# Altium integrated library TI Data Converters Digital to Analog Converter.IntLib: 1533 symbols (part 77 of 99)
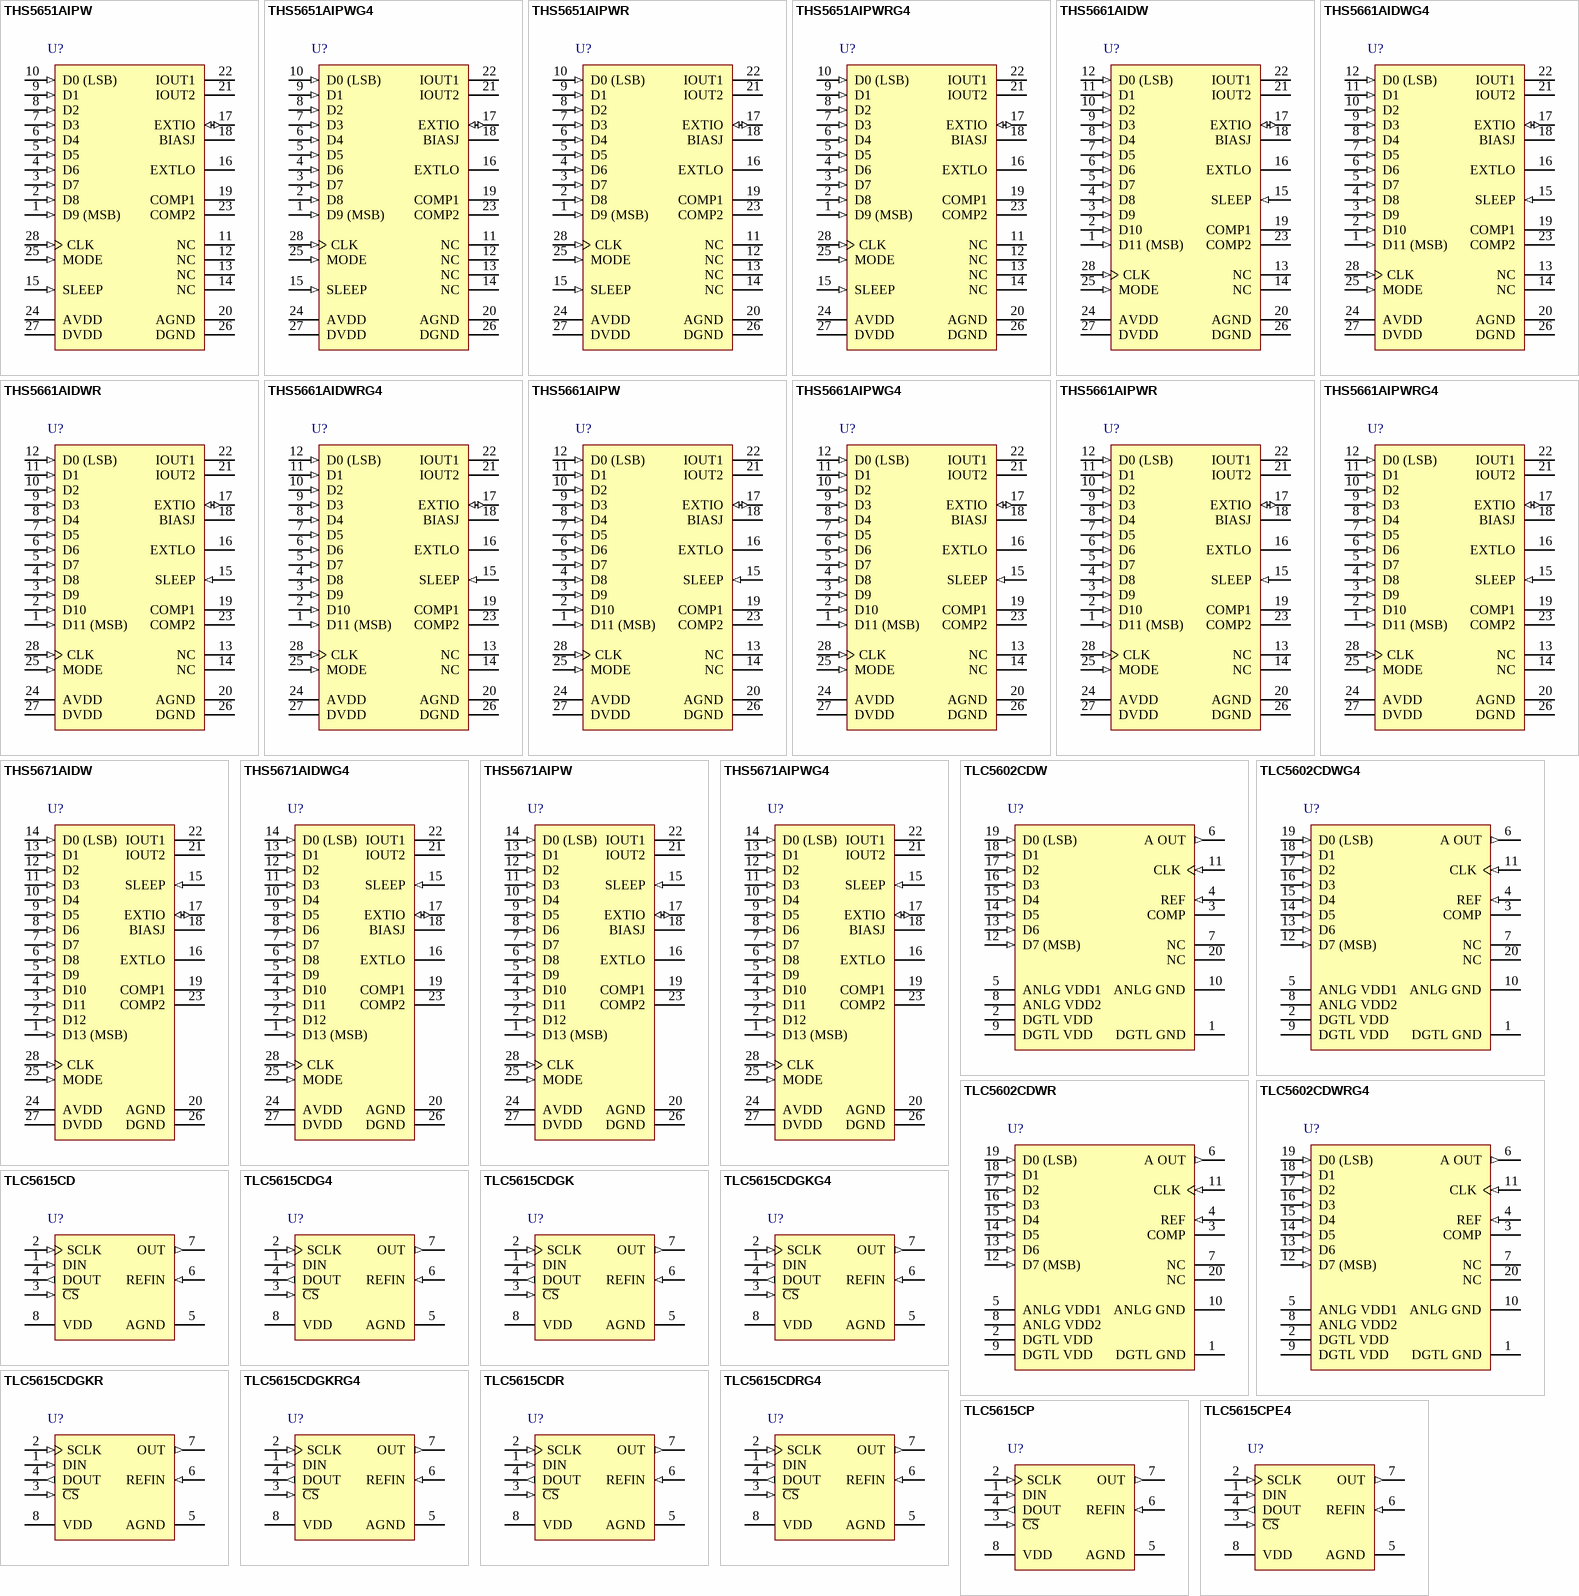
[diagram p149: symbols THS5651AIPW to TLC5615CPE4]

## THS5661AIDWR
designator U?
12-Bit, 125 MSPS, CommsDAC, Differential Scalable Current Outputs between 2 to 20 mA, -40 to 85 degC, 28-pin SOIC (DW28), Green (RoHS & no Sb/Br); Manufacturer: Texas Instruments; PartNumber: THS5661AIDWR; DAC Channels: 1; DNL(Max)(+/-LSB): 2; INL(Max)(+/-LSB): 4; Interface: Parallel CMOS; Power Consumption(Typ)(mW): 175; Resolution(Bits): 12; Settling Time(us): 0.035; SFDR(dB): 82; SubFamily: High Speed DAC (>10MSPS); DatasheetVersion: SLAS247B; PackageVersion: 4040000-6/G, 01/2011; PackageReference: DW28; PackageDescription: 28-Pin Plastic Small Outline, Body 17.90 x 7.50 mm, Pitch 1.27 mm; Supplier 1: Digi-Key; Supplier Part Number 1: THS5661AIDWR-ND; Supplier 2: Mouser; Supplier Part Number 2: 595-THS5661AIDWR; Eco-Plan: Green (RoHS & no Sb/Br); Mounting Technology: Surface Mount; Code_JEDEC: MS-013; ComponentLink1Description: Manufacturer URL; ComponentLink1URL: http://www.ti.com/; ComponentLink2Description: Datasheet; ComponentLink2URL: http://www.ti.com/general/docs/lit/getliterature.tsp?genericPartNumber=THS5661A&fileType=pdf; ComponentLink3Description: Package Specification; ComponentLink3URL: http://www.ti.com/lit/ml/mpds175a/mpds175a.pdf
footprint TI-DW28_N (SOIC, 28-Leads, Body 17.9x7.5mm, Pitch 1.27mm, IPC Medium Density)
footprint TI-DW28_L (SOIC, 28-Leads, Body 17.9x7.5mm, Pitch 1.27mm, IPC High Density)
footprint TI-DW28_M (SOIC, 28-Leads, Body 17.9x7.5mm, Pitch 1.27mm, IPC Low Density)
pins: 1 D11 (MSB) (in) "Data bit 11. D11 is most significant data bit (MSB).", 2 D10 (in) "Data bit 10.", 3 D9 (in) "Data bit 9.", 4 D8 (in) "Data bit 8.", 5 D7 (in) "Data bit 7.", 6 D6 (in) "Data bit 6.", 7 D5 (in) "Data bit 5.", 8 D4 (in) "Data bit 4.", 9 D3 (in) "Data bit 3.", 10 D2 (in) "Data bit 2.", 11 D1 (in) "Data bit 1.", 12 D0 (LSB) (in) "Data bit 0. D0 is least significant data bit (LSB).", 13 NC "No connection", 14 NC "No connection", 15 SLEEP (in) "Asynchronous hardware power down input. Active high. Internal pulldown. Requires 5 Us to power down but 3 ms to power up.", 16 EXTLO "Internal reference ground. Connect to AVDD to disable the internal reference source.", 17 EXTIO (io) "Used as external reference input when internal reference is disabled (i.e., EXTLO = AVDD). Used as internal reference output when EXTLO = AGND, requires a 0.1 uF decoupling capacitor to AGND when used as reference output.", 18 BIASJ "Full-scale output current bias", 19 COMP1 "Compensation and decoupling node, requires a 0.1 uF capacitor to AVDD.", 20 AGND (power) "Analog ground return for the internal analog circuitry", 21 IOUT2 (hiz) "Complementary DAC current output. Full scale when all input bits are 0", 22 IOUT1 (hiz) "DAC current output. Full scale when all input bits are set 1", 23 COMP2 "Internal bias node, requires a 0.1 uF decoupling capacitor to AGND.", 24 AVDD (power) "Positive analog supply voltage (3 V to 5.5 V)", 25 MODE (in) "Mode select. Internal pulldown. Mode 0 is selected if this pin is left floating or connected to DGND. See timing diagram.", 26 DGND (power) "Digital ground return for the internal digital logic circuitry", 27 DVDD (power) "Positive digital supply voltage (3 V to 5.5 V)", 28 CLK (in) "External clock input. Input data latched on rising edge of the clock."

## THS5661AIDWRG4
designator U?
12-Bit, 125 MSPS, CommsDAC, Differential Scalable Current Outputs between 2 to 20 mA, -40 to 85 degC, 28-pin SOIC (DW28), Green (RoHS & no Sb/Br); Manufacturer: Texas Instruments; PartNumber: THS5661AIDWRG4; DAC Channels: 1; DNL(Max)(+/-LSB): 2; INL(Max)(+/-LSB): 4; Interface: Parallel CMOS; Power Consumption(Typ)(mW): 175; Resolution(Bits): 12; Settling Time(us): 0.035; SFDR(dB): 82; SubFamily: High Speed DAC (>10MSPS); DatasheetVersion: SLAS247B; PackageVersion: 4040000-6/G, 01/2011; PackageReference: DW28; PackageDescription: 28-Pin Plastic Small Outline, Body 17.90 x 7.50 mm, Pitch 1.27 mm; Supplier 1: Digi-Key; Supplier Part Number 1: THS5661AIDWRG4-ND; Supplier 2: Mouser; Supplier Part Number 2: 595-THS5661AIDWRG4; Eco-Plan: Green (RoHS & no Sb/Br); Mounting Technology: Surface Mount; Code_JEDEC: MS-013; ComponentLink1Description: Manufacturer URL; ComponentLink1URL: http://www.ti.com/; ComponentLink2Description: Datasheet; ComponentLink2URL: http://www.ti.com/general/docs/lit/getliterature.tsp?genericPartNumber=THS5661A&fileType=pdf; ComponentLink3Description: Package Specification; ComponentLink3URL: http://www.ti.com/lit/ml/mpds175a/mpds175a.pdf
footprint TI-DW28_N (SOIC, 28-Leads, Body 17.9x7.5mm, Pitch 1.27mm, IPC Medium Density)
footprint TI-DW28_L (SOIC, 28-Leads, Body 17.9x7.5mm, Pitch 1.27mm, IPC High Density)
footprint TI-DW28_M (SOIC, 28-Leads, Body 17.9x7.5mm, Pitch 1.27mm, IPC Low Density)
pins: 1 D11 (MSB) (in) "Data bit 11. D11 is most significant data bit (MSB).", 2 D10 (in) "Data bit 10.", 3 D9 (in) "Data bit 9.", 4 D8 (in) "Data bit 8.", 5 D7 (in) "Data bit 7.", 6 D6 (in) "Data bit 6.", 7 D5 (in) "Data bit 5.", 8 D4 (in) "Data bit 4.", 9 D3 (in) "Data bit 3.", 10 D2 (in) "Data bit 2.", 11 D1 (in) "Data bit 1.", 12 D0 (LSB) (in) "Data bit 0. D0 is least significant data bit (LSB).", 13 NC "No connection", 14 NC "No connection", 15 SLEEP (in) "Asynchronous hardware power down input. Active high. Internal pulldown. Requires 5 Us to power down but 3 ms to power up.", 16 EXTLO "Internal reference ground. Connect to AVDD to disable the internal reference source.", 17 EXTIO (io) "Used as external reference input when internal reference is disabled (i.e., EXTLO = AVDD). Used as internal reference output when EXTLO = AGND, requires a 0.1 uF decoupling capacitor to AGND when used as reference output.", 18 BIASJ "Full-scale output current bias", 19 COMP1 "Compensation and decoupling node, requires a 0.1 uF capacitor to AVDD.", 20 AGND (power) "Analog ground return for the internal analog circuitry", 21 IOUT2 (hiz) "Complementary DAC current output. Full scale when all input bits are 0", 22 IOUT1 (hiz) "DAC current output. Full scale when all input bits are set 1", 23 COMP2 "Internal bias node, requires a 0.1 uF decoupling capacitor to AGND.", 24 AVDD (power) "Positive analog supply voltage (3 V to 5.5 V)", 25 MODE (in) "Mode select. Internal pulldown. Mode 0 is selected if this pin is left floating or connected to DGND. See timing diagram.", 26 DGND (power) "Digital ground return for the internal digital logic circuitry", 27 DVDD (power) "Positive digital supply voltage (3 V to 5.5 V)", 28 CLK (in) "External clock input. Input data latched on rising edge of the clock."

## THS5661AIPW
designator U?
12-Bit, 125 MSPS, CommsDAC, Differential Scalable Current Outputs between 2 to 20 mA, -40 to 85 degC, 28-pin SOP (PW28), Green (RoHS & no Sb/Br); Manufacturer: Texas Instruments; PartNumber: THS5661AIPW; DAC Channels: 1; DNL(Max)(+/-LSB): 2; INL(Max)(+/-LSB): 4; Interface: Parallel CMOS; Power Consumption(Typ)(mW): 175; Resolution(Bits): 12; Settling Time(us): 0.035; SFDR(dB): 82; SubFamily: High Speed DAC (>10MSPS); DatasheetVersion: SLAS247B; PackageVersion: 4040064-7/G, 02/2011; PackageReference: PW28; PackageDescription: 28-Pin Plastic Small Outline, Body 9.7 x 4.4 mm, Pitch 0.65 mm; Supplier 1: Digi-Key; Supplier Part Number 1: 296-2288-5-ND; Supplier 2: Mouser; Supplier Part Number 2: 595-THS5661AIPW; Eco-Plan: Green (RoHS & no Sb/Br); Mounting Technology: Surface Mount; Code_JEDEC: MO-153; ComponentLink1Description: Manufacturer URL; ComponentLink1URL: http://www.ti.com/; ComponentLink2Description: Datasheet; ComponentLink2URL: http://www.ti.com/general/docs/lit/getliterature.tsp?genericPartNumber=THS5661A&fileType=pdf; ComponentLink3Description: Package Specification; ComponentLink3URL: http://www.ti.com/litv/pdf/mpds364
footprint TI-PW28_N (SOP, 28-Leads, Body 9.7x4.4mm, Pitch 0.65mm, IPC Medium Density)
footprint TI-PW28_L (SOP, 28-Leads, Body 9.7x4.4mm, Pitch 0.65mm, IPC High Density)
footprint TI-PW28_M (SOP, 28-Leads, Body 9.7x4.4mm, Pitch 0.65mm, IPC Low Density)
pins: 1 D11 (MSB) (in) "Data bit 11. D11 is most significant data bit (MSB).", 2 D10 (in) "Data bit 10.", 3 D9 (in) "Data bit 9.", 4 D8 (in) "Data bit 8.", 5 D7 (in) "Data bit 7.", 6 D6 (in) "Data bit 6.", 7 D5 (in) "Data bit 5.", 8 D4 (in) "Data bit 4.", 9 D3 (in) "Data bit 3.", 10 D2 (in) "Data bit 2.", 11 D1 (in) "Data bit 1.", 12 D0 (LSB) (in) "Data bit 0. D0 is least significant data bit (LSB).", 13 NC "No connection", 14 NC "No connection", 15 SLEEP (in) "Asynchronous hardware power down input. Active high. Internal pulldown. Requires 5 Us to power down but 3 ms to power up.", 16 EXTLO "Internal reference ground. Connect to AVDD to disable the internal reference source.", 17 EXTIO (io) "Used as external reference input when internal reference is disabled (i.e., EXTLO = AVDD). Used as internal reference output when EXTLO = AGND, requires a 0.1 uF decoupling capacitor to AGND when used as reference output.", 18 BIASJ "Full-scale output current bias", 19 COMP1 "Compensation and decoupling node, requires a 0.1 uF capacitor to AVDD.", 20 AGND (power) "Analog ground return for the internal analog circuitry", 21 IOUT2 (hiz) "Complementary DAC current output. Full scale when all input bits are 0", 22 IOUT1 (hiz) "DAC current output. Full scale when all input bits are set 1", 23 COMP2 "Internal bias node, requires a 0.1 uF decoupling capacitor to AGND.", 24 AVDD (power) "Positive analog supply voltage (3 V to 5.5 V)", 25 MODE (in) "Mode select. Internal pulldown. Mode 0 is selected if this pin is left floating or connected to DGND. See timing diagram.", 26 DGND (power) "Digital ground return for the internal digital logic circuitry", 27 DVDD (power) "Positive digital supply voltage (3 V to 5.5 V)", 28 CLK (in) "External clock input. Input data latched on rising edge of the clock."

## THS5661AIPWG4
designator U?
12-Bit, 125 MSPS, CommsDAC, Differential Scalable Current Outputs between 2 to 20 mA, -40 to 85 degC, 28-pin SOP (PW28), Green (RoHS & no Sb/Br); Manufacturer: Texas Instruments; PartNumber: THS5661AIPWG4; DAC Channels: 1; DNL(Max)(+/-LSB): 2; INL(Max)(+/-LSB): 4; Interface: Parallel CMOS; Power Consumption(Typ)(mW): 175; Resolution(Bits): 12; Settling Time(us): 0.035; SFDR(dB): 82; SubFamily: High Speed DAC (>10MSPS); DatasheetVersion: SLAS247B; PackageVersion: 4040064-7/G, 02/2011; PackageReference: PW28; PackageDescription: 28-Pin Plastic Small Outline, Body 9.7 x 4.4 mm, Pitch 0.65 mm; Supplier 1: Digi-Key; Supplier Part Number 1: THS5661AIPWG4-ND; Supplier 2: Mouser; Supplier Part Number 2: 595-THS5661AIPWG4; Eco-Plan: Green (RoHS & no Sb/Br); Mounting Technology: Surface Mount; Code_JEDEC: MO-153; ComponentLink1Description: Manufacturer URL; ComponentLink1URL: http://www.ti.com/; ComponentLink2Description: Datasheet; ComponentLink2URL: http://www.ti.com/general/docs/lit/getliterature.tsp?genericPartNumber=THS5661A&fileType=pdf; ComponentLink3Description: Package Specification; ComponentLink3URL: http://www.ti.com/litv/pdf/mpds364
footprint TI-PW28_N (SOP, 28-Leads, Body 9.7x4.4mm, Pitch 0.65mm, IPC Medium Density)
footprint TI-PW28_L (SOP, 28-Leads, Body 9.7x4.4mm, Pitch 0.65mm, IPC High Density)
footprint TI-PW28_M (SOP, 28-Leads, Body 9.7x4.4mm, Pitch 0.65mm, IPC Low Density)
pins: 1 D11 (MSB) (in) "Data bit 11. D11 is most significant data bit (MSB).", 2 D10 (in) "Data bit 10.", 3 D9 (in) "Data bit 9.", 4 D8 (in) "Data bit 8.", 5 D7 (in) "Data bit 7.", 6 D6 (in) "Data bit 6.", 7 D5 (in) "Data bit 5.", 8 D4 (in) "Data bit 4.", 9 D3 (in) "Data bit 3.", 10 D2 (in) "Data bit 2.", 11 D1 (in) "Data bit 1.", 12 D0 (LSB) (in) "Data bit 0. D0 is least significant data bit (LSB).", 13 NC "No connection", 14 NC "No connection", 15 SLEEP (in) "Asynchronous hardware power down input. Active high. Internal pulldown. Requires 5 Us to power down but 3 ms to power up.", 16 EXTLO "Internal reference ground. Connect to AVDD to disable the internal reference source.", 17 EXTIO (io) "Used as external reference input when internal reference is disabled (i.e., EXTLO = AVDD). Used as internal reference output when EXTLO = AGND, requires a 0.1 uF decoupling capacitor to AGND when used as reference output.", 18 BIASJ "Full-scale output current bias", 19 COMP1 "Compensation and decoupling node, requires a 0.1 uF capacitor to AVDD.", 20 AGND (power) "Analog ground return for the internal analog circuitry", 21 IOUT2 (hiz) "Complementary DAC current output. Full scale when all input bits are 0", 22 IOUT1 (hiz) "DAC current output. Full scale when all input bits are set 1", 23 COMP2 "Internal bias node, requires a 0.1 uF decoupling capacitor to AGND.", 24 AVDD (power) "Positive analog supply voltage (3 V to 5.5 V)", 25 MODE (in) "Mode select. Internal pulldown. Mode 0 is selected if this pin is left floating or connected to DGND. See timing diagram.", 26 DGND (power) "Digital ground return for the internal digital logic circuitry", 27 DVDD (power) "Positive digital supply voltage (3 V to 5.5 V)", 28 CLK (in) "External clock input. Input data latched on rising edge of the clock."

## THS5661AIPWR
designator U?
12-Bit, 125 MSPS, CommsDAC, Differential Scalable Current Outputs between 2 to 20 mA, -40 to 85 degC, 28-pin SOP (PW28), Green (RoHS & no Sb/Br); Manufacturer: Texas Instruments; PartNumber: THS5661AIPWR; DAC Channels: 1; DNL(Max)(+/-LSB): 2; INL(Max)(+/-LSB): 4; Interface: Parallel CMOS; Power Consumption(Typ)(mW): 175; Resolution(Bits): 12; Settling Time(us): 0.035; SFDR(dB): 82; SubFamily: High Speed DAC (>10MSPS); DatasheetVersion: SLAS247B; PackageVersion: 4040064-7/G, 02/2011; PackageReference: PW28; PackageDescription: 28-Pin Plastic Small Outline, Body 9.7 x 4.4 mm, Pitch 0.65 mm; Supplier 1: Digi-Key; Supplier Part Number 1: 296-27686-2-ND; Supplier 2: Digi-Key; Supplier Part Number 2: 296-27686-1-ND; Supplier 3: Digi-Key; Supplier Part Number 3: 296-27686-6-ND; Supplier 4: Newark; Supplier Part Number 4: 76C6498; Supplier 5: Mouser; Supplier Part Number 5: 595-THS5661AIPWR; Eco-Plan: Green (RoHS & no Sb/Br); Mounting Technology: Surface Mount; Code_JEDEC: MO-153; ComponentLink1Description: Manufacturer URL; ComponentLink1URL: http://www.ti.com/; ComponentLink2Description: Datasheet; ComponentLink2URL: http://www.ti.com/general/docs/lit/getliterature.tsp?genericPartNumber=THS5661A&fileType=pdf; ComponentLink3Description: Package Specification; ComponentLink3URL: http://www.ti.com/litv/pdf/mpds364
footprint TI-PW28_N (SOP, 28-Leads, Body 9.7x4.4mm, Pitch 0.65mm, IPC Medium Density)
footprint TI-PW28_L (SOP, 28-Leads, Body 9.7x4.4mm, Pitch 0.65mm, IPC High Density)
footprint TI-PW28_M (SOP, 28-Leads, Body 9.7x4.4mm, Pitch 0.65mm, IPC Low Density)
pins: 1 D11 (MSB) (in) "Data bit 11. D11 is most significant data bit (MSB).", 2 D10 (in) "Data bit 10.", 3 D9 (in) "Data bit 9.", 4 D8 (in) "Data bit 8.", 5 D7 (in) "Data bit 7.", 6 D6 (in) "Data bit 6.", 7 D5 (in) "Data bit 5.", 8 D4 (in) "Data bit 4.", 9 D3 (in) "Data bit 3.", 10 D2 (in) "Data bit 2.", 11 D1 (in) "Data bit 1.", 12 D0 (LSB) (in) "Data bit 0. D0 is least significant data bit (LSB).", 13 NC "No connection", 14 NC "No connection", 15 SLEEP (in) "Asynchronous hardware power down input. Active high. Internal pulldown. Requires 5 Us to power down but 3 ms to power up.", 16 EXTLO "Internal reference ground. Connect to AVDD to disable the internal reference source.", 17 EXTIO (io) "Used as external reference input when internal reference is disabled (i.e., EXTLO = AVDD). Used as internal reference output when EXTLO = AGND, requires a 0.1 uF decoupling capacitor to AGND when used as reference output.", 18 BIASJ "Full-scale output current bias", 19 COMP1 "Compensation and decoupling node, requires a 0.1 uF capacitor to AVDD.", 20 AGND (power) "Analog ground return for the internal analog circuitry", 21 IOUT2 (hiz) "Complementary DAC current output. Full scale when all input bits are 0", 22 IOUT1 (hiz) "DAC current output. Full scale when all input bits are set 1", 23 COMP2 "Internal bias node, requires a 0.1 uF decoupling capacitor to AGND.", 24 AVDD (power) "Positive analog supply voltage (3 V to 5.5 V)", 25 MODE (in) "Mode select. Internal pulldown. Mode 0 is selected if this pin is left floating or connected to DGND. See timing diagram.", 26 DGND (power) "Digital ground return for the internal digital logic circuitry", 27 DVDD (power) "Positive digital supply voltage (3 V to 5.5 V)", 28 CLK (in) "External clock input. Input data latched on rising edge of the clock."

## THS5661AIPWRG4
designator U?
12-Bit, 125 MSPS, CommsDAC, Differential Scalable Current Outputs between 2 to 20 mA, -40 to 85 degC, 28-pin SOP (PW28), Green (RoHS & no Sb/Br); Manufacturer: Texas Instruments; PartNumber: THS5661AIPWRG4; DAC Channels: 1; DNL(Max)(+/-LSB): 2; INL(Max)(+/-LSB): 4; Interface: Parallel CMOS; Power Consumption(Typ)(mW): 175; Resolution(Bits): 12; Settling Time(us): 0.035; SFDR(dB): 82; SubFamily: High Speed DAC (>10MSPS); DatasheetVersion: SLAS247B; PackageVersion: 4040064-7/G, 02/2011; PackageReference: PW28; PackageDescription: 28-Pin Plastic Small Outline, Body 9.7 x 4.4 mm, Pitch 0.65 mm; Supplier 1: Digi-Key; Supplier Part Number 1: THS5661AIPWRG4-ND; Supplier 2: Mouser; Supplier Part Number 2: 595-THS5661AIPWRG4; Eco-Plan: Green (RoHS & no Sb/Br); Mounting Technology: Surface Mount; Code_JEDEC: MO-153; ComponentLink1Description: Manufacturer URL; ComponentLink1URL: http://www.ti.com/; ComponentLink2Description: Datasheet; ComponentLink2URL: http://www.ti.com/general/docs/lit/getliterature.tsp?genericPartNumber=THS5661A&fileType=pdf; ComponentLink3Description: Package Specification; ComponentLink3URL: http://www.ti.com/litv/pdf/mpds364
footprint TI-PW28_N (SOP, 28-Leads, Body 9.7x4.4mm, Pitch 0.65mm, IPC Medium Density)
footprint TI-PW28_L (SOP, 28-Leads, Body 9.7x4.4mm, Pitch 0.65mm, IPC High Density)
footprint TI-PW28_M (SOP, 28-Leads, Body 9.7x4.4mm, Pitch 0.65mm, IPC Low Density)
pins: 1 D11 (MSB) (in) "Data bit 11. D11 is most significant data bit (MSB).", 2 D10 (in) "Data bit 10.", 3 D9 (in) "Data bit 9.", 4 D8 (in) "Data bit 8.", 5 D7 (in) "Data bit 7.", 6 D6 (in) "Data bit 6.", 7 D5 (in) "Data bit 5.", 8 D4 (in) "Data bit 4.", 9 D3 (in) "Data bit 3.", 10 D2 (in) "Data bit 2.", 11 D1 (in) "Data bit 1.", 12 D0 (LSB) (in) "Data bit 0. D0 is least significant data bit (LSB).", 13 NC "No connection", 14 NC "No connection", 15 SLEEP (in) "Asynchronous hardware power down input. Active high. Internal pulldown. Requires 5 Us to power down but 3 ms to power up.", 16 EXTLO "Internal reference ground. Connect to AVDD to disable the internal reference source.", 17 EXTIO (io) "Used as external reference input when internal reference is disabled (i.e., EXTLO = AVDD). Used as internal reference output when EXTLO = AGND, requires a 0.1 uF decoupling capacitor to AGND when used as reference output.", 18 BIASJ "Full-scale output current bias", 19 COMP1 "Compensation and decoupling node, requires a 0.1 uF capacitor to AVDD.", 20 AGND (power) "Analog ground return for the internal analog circuitry", 21 IOUT2 (hiz) "Complementary DAC current output. Full scale when all input bits are 0", 22 IOUT1 (hiz) "DAC current output. Full scale when all input bits are set 1", 23 COMP2 "Internal bias node, requires a 0.1 uF decoupling capacitor to AGND.", 24 AVDD (power) "Positive analog supply voltage (3 V to 5.5 V)", 25 MODE (in) "Mode select. Internal pulldown. Mode 0 is selected if this pin is left floating or connected to DGND. See timing diagram.", 26 DGND (power) "Digital ground return for the internal digital logic circuitry", 27 DVDD (power) "Positive digital supply voltage (3 V to 5.5 V)", 28 CLK (in) "External clock input. Input data latched on rising edge of the clock."

## THS5671AIDW
designator U?
14-Bit, 125 MSPS, CommsDAC, Differential Scalable Current Outputs between 2 to 20 mA, -40 to 85 degC, 28-pin SOIC (DW28), Green (RoHS & no Sb/Br); Manufacturer: Texas Instruments; PartNumber: THS5671AIDW; DAC Channels: 1; DNL(Max)(+/-LSB): 3.5; INL(Max)(+/-LSB): 7; Interface: Parallel CMOS; Power Consumption(Typ)(mW): 175; Resolution(Bits): 14; Settling Time(us): 0.035; SFDR(dB): 75; SubFamily: High Speed DAC (>10MSPS); DatasheetVersion: SLAS201A; PackageVersion: 4040000-6/G, 01/2011; PackageReference: DW28; PackageDescription: 28-Pin Plastic Small Outline, Body 17.90 x 7.50 mm, Pitch 1.27 mm; Supplier 1: Digi-Key; Supplier Part Number 1: 296-2998-5-ND; Supplier 2: Newark; Supplier Part Number 2: 19C8980; Supplier 3: Mouser; Supplier Part Number 3: 595-THS5671AIDW; Eco-Plan: Green (RoHS & no Sb/Br); Mounting Technology: Surface Mount; Code_JEDEC: MS-013; ComponentLink1Description: Manufacturer URL; ComponentLink1URL: http://www.ti.com/; ComponentLink2Description: Datasheet; ComponentLink2URL: http://www.ti.com/general/docs/lit/getliterature.tsp?genericPartNumber=THS5671A&fileType=pdf; ComponentLink3Description: Package Specification; ComponentLink3URL: http://www.ti.com/lit/ml/mpds175a/mpds175a.pdf
footprint TI-DW28_N (SOIC, 28-Leads, Body 17.9x7.5mm, Pitch 1.27mm, IPC Medium Density)
footprint TI-DW28_L (SOIC, 28-Leads, Body 17.9x7.5mm, Pitch 1.27mm, IPC High Density)
footprint TI-DW28_M (SOIC, 28-Leads, Body 17.9x7.5mm, Pitch 1.27mm, IPC Low Density)
pins: 1 D13 (MSB) (in) "Data bit 13. D13 is most significant data bit (MSB).", 2 D12 (in) "Data bit 12.", 3 D11 (in) "Data bit 11.", 4 D10 (in) "Data bit 10.", 5 D9 (in) "Data bit 9.", 6 D8 (in) "Data bit 8.", 7 D7 (in) "Data bit 7.", 8 D6 (in) "Data bit 6.", 9 D5 (in) "Data bit 5.", 10 D4 (in) "Data bit 4.", 11 D3 (in) "Data bit 3.", 12 D2 (in) "Data bit 2.", 13 D1 (in) "Data bit 1.", 14 D0 (LSB) (in) "Data bit 0. D0 is least significant data bit (LSB).", 15 SLEEP (in) "Asynchronous hardware power down input. Active high. Internal pulldown. Requires 5 us to power down but 3 ms to power up.", 16 EXTLO "Internal reference ground. Connect to AVDD to disable the internal reference source.", 17 EXTIO (io) "Used as external reference input when internal reference is disabled (i.e., EXTLO = AVDD). Used as internal reference output when EXTLO = AGND, requires a 0.1 uF decoupling capacitor to AGND when used as reference output.", 18 BIASJ "Full-scale output current bias", 19 COMP1 "Compensation and decoupling node, requires a 0.1 uF capacitor to AVDD.", 20 AGND (power) "Analog ground return for the internal analog circuitry", 21 IOUT2 (hiz) "Complementary DAC current output. Full scale when all input bits are 0", 22 IOUT1 (hiz) "DAC current output. Full scale when all input bits are set 1", 23 COMP2 "Internal bias node, requires a 0.1 uF decoupling capacitor to AGND.", 24 AVDD (power) "Positive analog supply voltage (4.5 V to 5.5 V)", 25 MODE (in) "Mode select. Internal pulldown. Mode 0 is selected if this pin is left floating or connected to DGND. See timing diagram.", 26 DGND (power) "Digital ground return for the internal digital logic circuitry", 27 DVDD (power) "Positive digital supply voltage (3 V to 5.5 V)", 28 CLK (in) "External clock input. Input data latched on rising edge of the clock."

## THS5671AIDWG4
designator U?
14-Bit, 125 MSPS, CommsDAC, Differential Scalable Current Outputs between 2 to 20 mA, -40 to 85 degC, 28-pin SOIC (DW28), Green (RoHS & no Sb/Br); Manufacturer: Texas Instruments; PartNumber: THS5671AIDWG4; DAC Channels: 1; DNL(Max)(+/-LSB): 3.5; INL(Max)(+/-LSB): 7; Interface: Parallel CMOS; Power Consumption(Typ)(mW): 175; Resolution(Bits): 14; Settling Time(us): 0.035; SFDR(dB): 75; SubFamily: High Speed DAC (>10MSPS); DatasheetVersion: SLAS201A; PackageVersion: 4040000-6/G, 01/2011; PackageReference: DW28; PackageDescription: 28-Pin Plastic Small Outline, Body 17.90 x 7.50 mm, Pitch 1.27 mm; Supplier 1: Digi-Key; Supplier Part Number 1: THS5671AIDWG4-ND; Supplier 2: Mouser; Supplier Part Number 2: 595-THS5671AIDWG4; Eco-Plan: Green (RoHS & no Sb/Br); Mounting Technology: Surface Mount; Code_JEDEC: MS-013; ComponentLink1Description: Manufacturer URL; ComponentLink1URL: http://www.ti.com/; ComponentLink2Description: Datasheet; ComponentLink2URL: http://www.ti.com/general/docs/lit/getliterature.tsp?genericPartNumber=THS5671A&fileType=pdf; ComponentLink3Description: Package Specification; ComponentLink3URL: http://www.ti.com/lit/ml/mpds175a/mpds175a.pdf
footprint TI-DW28_N (SOIC, 28-Leads, Body 17.9x7.5mm, Pitch 1.27mm, IPC Medium Density)
footprint TI-DW28_L (SOIC, 28-Leads, Body 17.9x7.5mm, Pitch 1.27mm, IPC High Density)
footprint TI-DW28_M (SOIC, 28-Leads, Body 17.9x7.5mm, Pitch 1.27mm, IPC Low Density)
pins: 1 D13 (MSB) (in) "Data bit 13. D13 is most significant data bit (MSB).", 2 D12 (in) "Data bit 12.", 3 D11 (in) "Data bit 11.", 4 D10 (in) "Data bit 10.", 5 D9 (in) "Data bit 9.", 6 D8 (in) "Data bit 8.", 7 D7 (in) "Data bit 7.", 8 D6 (in) "Data bit 6.", 9 D5 (in) "Data bit 5.", 10 D4 (in) "Data bit 4.", 11 D3 (in) "Data bit 3.", 12 D2 (in) "Data bit 2.", 13 D1 (in) "Data bit 1.", 14 D0 (LSB) (in) "Data bit 0. D0 is least significant data bit (LSB).", 15 SLEEP (in) "Asynchronous hardware power down input. Active high. Internal pulldown. Requires 5 us to power down but 3 ms to power up.", 16 EXTLO "Internal reference ground. Connect to AVDD to disable the internal reference source.", 17 EXTIO (io) "Used as external reference input when internal reference is disabled (i.e., EXTLO = AVDD). Used as internal reference output when EXTLO = AGND, requires a 0.1 uF decoupling capacitor to AGND when used as reference output.", 18 BIASJ "Full-scale output current bias", 19 COMP1 "Compensation and decoupling node, requires a 0.1 uF capacitor to AVDD.", 20 AGND (power) "Analog ground return for the internal analog circuitry", 21 IOUT2 (hiz) "Complementary DAC current output. Full scale when all input bits are 0", 22 IOUT1 (hiz) "DAC current output. Full scale when all input bits are set 1", 23 COMP2 "Internal bias node, requires a 0.1 uF decoupling capacitor to AGND.", 24 AVDD (power) "Positive analog supply voltage (4.5 V to 5.5 V)", 25 MODE (in) "Mode select. Internal pulldown. Mode 0 is selected if this pin is left floating or connected to DGND. See timing diagram.", 26 DGND (power) "Digital ground return for the internal digital logic circuitry", 27 DVDD (power) "Positive digital supply voltage (3 V to 5.5 V)", 28 CLK (in) "External clock input. Input data latched on rising edge of the clock."

## THS5671AIPW
designator U?
14-Bit, 125 MSPS, CommsDAC, Differential Scalable Current Outputs between 2 to 20 mA, -40 to 85 degC, 28-pin SOP (PW28), Green (RoHS & no Sb/Br); Manufacturer: Texas Instruments; PartNumber: THS5671AIPW; DAC Channels: 1; DNL(Max)(+/-LSB): 3.5; INL(Max)(+/-LSB): 7; Interface: Parallel CMOS; Power Consumption(Typ)(mW): 175; Resolution(Bits): 14; Settling Time(us): 0.035; SFDR(dB): 75; SubFamily: High Speed DAC (>10MSPS); DatasheetVersion: SLAS201A; PackageVersion: 4040064-7/G, 02/2011; PackageReference: PW28; PackageDescription: 28-Pin Plastic Small Outline, Body 9.7 x 4.4 mm, Pitch 0.65 mm; Supplier 1: Digi-Key; Supplier Part Number 1: 296-2289-5-ND; Supplier 2: Newark; Supplier Part Number 2: 76C6501; Supplier 3: Mouser; Supplier Part Number 3: 595-THS5671AIPW; Eco-Plan: Green (RoHS & no Sb/Br); Mounting Technology: Surface Mount; Code_JEDEC: MO-153; ComponentLink1Description: Manufacturer URL; ComponentLink1URL: http://www.ti.com/; ComponentLink2Description: Datasheet; ComponentLink2URL: http://www.ti.com/general/docs/lit/getliterature.tsp?genericPartNumber=THS5671A&fileType=pdf; ComponentLink3Description: Package Specification; ComponentLink3URL: http://www.ti.com/litv/pdf/mpds364
footprint TI-PW28_N (SOP, 28-Leads, Body 9.7x4.4mm, Pitch 0.65mm, IPC Medium Density)
footprint TI-PW28_L (SOP, 28-Leads, Body 9.7x4.4mm, Pitch 0.65mm, IPC High Density)
footprint TI-PW28_M (SOP, 28-Leads, Body 9.7x4.4mm, Pitch 0.65mm, IPC Low Density)
pins: 1 D13 (MSB) (in) "Data bit 13. D13 is most significant data bit (MSB).", 2 D12 (in) "Data bit 12.", 3 D11 (in) "Data bit 11.", 4 D10 (in) "Data bit 10.", 5 D9 (in) "Data bit 9.", 6 D8 (in) "Data bit 8.", 7 D7 (in) "Data bit 7.", 8 D6 (in) "Data bit 6.", 9 D5 (in) "Data bit 5.", 10 D4 (in) "Data bit 4.", 11 D3 (in) "Data bit 3.", 12 D2 (in) "Data bit 2.", 13 D1 (in) "Data bit 1.", 14 D0 (LSB) (in) "Data bit 0. D0 is least significant data bit (LSB).", 15 SLEEP (in) "Asynchronous hardware power down input. Active high. Internal pulldown. Requires 5 us to power down but 3 ms to power up.", 16 EXTLO "Internal reference ground. Connect to AVDD to disable the internal reference source.", 17 EXTIO (io) "Used as external reference input when internal reference is disabled (i.e., EXTLO = AVDD). Used as internal reference output when EXTLO = AGND, requires a 0.1 uF decoupling capacitor to AGND when used as reference output.", 18 BIASJ "Full-scale output current bias", 19 COMP1 "Compensation and decoupling node, requires a 0.1 uF capacitor to AVDD.", 20 AGND (power) "Analog ground return for the internal analog circuitry", 21 IOUT2 (hiz) "Complementary DAC current output. Full scale when all input bits are 0", 22 IOUT1 (hiz) "DAC current output. Full scale when all input bits are set 1", 23 COMP2 "Internal bias node, requires a 0.1 uF decoupling capacitor to AGND.", 24 AVDD (power) "Positive analog supply voltage (4.5 V to 5.5 V)", 25 MODE (in) "Mode select. Internal pulldown. Mode 0 is selected if this pin is left floating or connected to DGND. See timing diagram.", 26 DGND (power) "Digital ground return for the internal digital logic circuitry", 27 DVDD (power) "Positive digital supply voltage (3 V to 5.5 V)", 28 CLK (in) "External clock input. Input data latched on rising edge of the clock."

## THS5671AIPWG4
designator U?
14-Bit, 125 MSPS, CommsDAC, Differential Scalable Current Outputs between 2 to 20 mA, -40 to 85 degC, 28-pin SOP (PW28), Green (RoHS & no Sb/Br); Manufacturer: Texas Instruments; PartNumber: THS5671AIPWG4; DAC Channels: 1; DNL(Max)(+/-LSB): 3.5; INL(Max)(+/-LSB): 7; Interface: Parallel CMOS; Power Consumption(Typ)(mW): 175; Resolution(Bits): 14; Settling Time(us): 0.035; SFDR(dB): 75; SubFamily: High Speed DAC (>10MSPS); DatasheetVersion: SLAS201A; PackageVersion: 4040064-7/G, 02/2011; PackageReference: PW28; PackageDescription: 28-Pin Plastic Small Outline, Body 9.7 x 4.4 mm, Pitch 0.65 mm; Supplier 1: Digi-Key; Supplier Part Number 1: THS5671AIPWG4-ND; Supplier 2: Newark; Supplier Part Number 2: 70K5475; Supplier 3: Mouser; Supplier Part Number 3: 595-THS5671AIPWG4; Eco-Plan: Green (RoHS & no Sb/Br); Mounting Technology: Surface Mount; Code_JEDEC: MO-153; ComponentLink1Description: Manufacturer URL; ComponentLink1URL: http://www.ti.com/; ComponentLink2Description: Datasheet; ComponentLink2URL: http://www.ti.com/general/docs/lit/getliterature.tsp?genericPartNumber=THS5671A&fileType=pdf; ComponentLink3Description: Package Specification; ComponentLink3URL: http://www.ti.com/litv/pdf/mpds364
footprint TI-PW28_N (SOP, 28-Leads, Body 9.7x4.4mm, Pitch 0.65mm, IPC Medium Density)
footprint TI-PW28_L (SOP, 28-Leads, Body 9.7x4.4mm, Pitch 0.65mm, IPC High Density)
footprint TI-PW28_M (SOP, 28-Leads, Body 9.7x4.4mm, Pitch 0.65mm, IPC Low Density)
pins: 1 D13 (MSB) (in) "Data bit 13. D13 is most significant data bit (MSB).", 2 D12 (in) "Data bit 12.", 3 D11 (in) "Data bit 11.", 4 D10 (in) "Data bit 10.", 5 D9 (in) "Data bit 9.", 6 D8 (in) "Data bit 8.", 7 D7 (in) "Data bit 7.", 8 D6 (in) "Data bit 6.", 9 D5 (in) "Data bit 5.", 10 D4 (in) "Data bit 4.", 11 D3 (in) "Data bit 3.", 12 D2 (in) "Data bit 2.", 13 D1 (in) "Data bit 1.", 14 D0 (LSB) (in) "Data bit 0. D0 is least significant data bit (LSB).", 15 SLEEP (in) "Asynchronous hardware power down input. Active high. Internal pulldown. Requires 5 us to power down but 3 ms to power up.", 16 EXTLO "Internal reference ground. Connect to AVDD to disable the internal reference source.", 17 EXTIO (io) "Used as external reference input when internal reference is disabled (i.e., EXTLO = AVDD). Used as internal reference output when EXTLO = AGND, requires a 0.1 uF decoupling capacitor to AGND when used as reference output.", 18 BIASJ "Full-scale output current bias", 19 COMP1 "Compensation and decoupling node, requires a 0.1 uF capacitor to AVDD.", 20 AGND (power) "Analog ground return for the internal analog circuitry", 21 IOUT2 (hiz) "Complementary DAC current output. Full scale when all input bits are 0", 22 IOUT1 (hiz) "DAC current output. Full scale when all input bits are set 1", 23 COMP2 "Internal bias node, requires a 0.1 uF decoupling capacitor to AGND.", 24 AVDD (power) "Positive analog supply voltage (4.5 V to 5.5 V)", 25 MODE (in) "Mode select. Internal pulldown. Mode 0 is selected if this pin is left floating or connected to DGND. See timing diagram.", 26 DGND (power) "Digital ground return for the internal digital logic circuitry", 27 DVDD (power) "Positive digital supply voltage (3 V to 5.5 V)", 28 CLK (in) "External clock input. Input data latched on rising edge of the clock."

## TLC5602CDW
designator U?
8-Bit, 30 MSPS Single DAC, 0 to 70 degC, 20-pin SOIC (DW20), Green (RoHS & no Sb/Br); Manufacturer: Texas Instruments; PartNumber: TLC5602CDW; DAC Channels: 1; Interface: Parallel CMOS; Power Consumption(Typ)(mW): 80; Resolution(Bits): 8; Settling Time(us): 0.03; SubFamily: High Speed DAC (>10MSPS); DatasheetVersion: SLAS023D; PackageVersion: 4040000-4/G, 01/2011; PackageReference: DW20; PackageDescription: 20-Pin Plastic Small Outline, Body 12.8 x 7.5 mm, Pitch 1.27 mm; Supplier 1: Digi-Key; Supplier Part Number 1: 296-3003-5-ND; Supplier 2: Farnell; Supplier Part Number 2: 8454450; Supplier 3: Newark; Supplier Part Number 3: 08F9148; Supplier 4: Mouser; Supplier Part Number 4: 595-TLC5602CDW; Eco-Plan: Green (RoHS & no Sb/Br); Mounting Technology: Surface Mount; Code_JEDEC: MO-013; ComponentLink1Description: Manufacturer URL; ComponentLink1URL: http://www.ti.com/; ComponentLink2Description: Datasheet; ComponentLink2URL: http://www.ti.com/general/docs/lit/getliterature.tsp?genericPartNumber=TLC5602&fileType=pdf; ComponentLink3Description: Package Specification; ComponentLink3URL: http://www.ti.com/lit/ml/mpds173a/mpds173a.pdf
footprint TI-DW20_N (SOIC, 20-Leads, Body 12.8x7.5mm, Pitch 1.27mm, IPC Medium Density)
footprint TI-DW20_L (SOIC, 20-Leads, Body 12.8x7.5mm, Pitch 1.27mm, IPC High Density)
footprint TI-DW20_M (SOIC, 20-Leads, Body 12.8x7.5mm, Pitch 1.27mm, IPC Low Density)
pins: 1 DGTL GND (power), 2 DGTL VDD (power), 3 COMP, 4 REF (in), 5 ANLG VDD1 (power), 6 A OUT (out), 7 NC, 8 ANLG VDD2 (power), 9 DGTL VDD (power), 10 ANLG GND (power), 11 CLK (in), 12 D7 (MSB) (in), 13 D6 (in), 14 D5 (in), 15 D4 (in), 16 D3 (in), 17 D2 (in), 18 D1 (in), 19 D0 (LSB) (in), 20 NC

## TLC5602CDWG4
designator U?
8-Bit, 30 MSPS Single DAC, 0 to 70 degC, 20-pin SOIC (DW20), Green (RoHS & no Sb/Br); Manufacturer: Texas Instruments; PartNumber: TLC5602CDWG4; DAC Channels: 1; Interface: Parallel CMOS; Power Consumption(Typ)(mW): 80; Resolution(Bits): 8; Settling Time(us): 0.03; SubFamily: High Speed DAC (>10MSPS); DatasheetVersion: SLAS023D; PackageVersion: 4040000-4/G, 01/2011; PackageReference: DW20; PackageDescription: 20-Pin Plastic Small Outline, Body 12.8 x 7.5 mm, Pitch 1.27 mm; Supplier 1: Digi-Key; Supplier Part Number 1: TLC5602CDWG4-ND; Supplier 2: Mouser; Supplier Part Number 2: 595-TLC5602CDWG4; Eco-Plan: Green (RoHS & no Sb/Br); Mounting Technology: Surface Mount; Code_JEDEC: MO-013; ComponentLink1Description: Manufacturer URL; ComponentLink1URL: http://www.ti.com/; ComponentLink2Description: Datasheet; ComponentLink2URL: http://www.ti.com/general/docs/lit/getliterature.tsp?genericPartNumber=TLC5602&fileType=pdf; ComponentLink3Description: Package Specification; ComponentLink3URL: http://www.ti.com/lit/ml/mpds173a/mpds173a.pdf
footprint TI-DW20_N (SOIC, 20-Leads, Body 12.8x7.5mm, Pitch 1.27mm, IPC Medium Density)
footprint TI-DW20_L (SOIC, 20-Leads, Body 12.8x7.5mm, Pitch 1.27mm, IPC High Density)
footprint TI-DW20_M (SOIC, 20-Leads, Body 12.8x7.5mm, Pitch 1.27mm, IPC Low Density)
pins: 1 DGTL GND (power), 2 DGTL VDD (power), 3 COMP, 4 REF (in), 5 ANLG VDD1 (power), 6 A OUT (out), 7 NC, 8 ANLG VDD2 (power), 9 DGTL VDD (power), 10 ANLG GND (power), 11 CLK (in), 12 D7 (MSB) (in), 13 D6 (in), 14 D5 (in), 15 D4 (in), 16 D3 (in), 17 D2 (in), 18 D1 (in), 19 D0 (LSB) (in), 20 NC

## TLC5602CDWR
designator U?
8-Bit, 30 MSPS Single DAC, 0 to 70 degC, 20-pin SOIC (DW20), Green (RoHS & no Sb/Br); Manufacturer: Texas Instruments; PartNumber: TLC5602CDWR; DAC Channels: 1; Interface: Parallel CMOS; Power Consumption(Typ)(mW): 80; Resolution(Bits): 8; Settling Time(us): 0.03; SubFamily: High Speed DAC (>10MSPS); DatasheetVersion: SLAS023D; PackageVersion: 4040000-4/G, 01/2011; PackageReference: DW20; PackageDescription: 20-Pin Plastic Small Outline, Body 12.8 x 7.5 mm, Pitch 1.27 mm; Supplier 1: Digi-Key; Supplier Part Number 1: 296-26758-2-ND; Supplier 2: Digi-Key; Supplier Part Number 2: 296-26758-1-ND; Supplier 3: Digi-Key; Supplier Part Number 3: 296-26758-6-ND; Supplier 4: Mouser; Supplier Part Number 4: 595-TLC5602CDWR; Eco-Plan: Green (RoHS & no Sb/Br); Mounting Technology: Surface Mount; Code_JEDEC: MO-013; ComponentLink1Description: Manufacturer URL; ComponentLink1URL: http://www.ti.com/; ComponentLink2Description: Datasheet; ComponentLink2URL: http://www.ti.com/general/docs/lit/getliterature.tsp?genericPartNumber=TLC5602&fileType=pdf; ComponentLink3Description: Package Specification; ComponentLink3URL: http://www.ti.com/lit/ml/mpds173a/mpds173a.pdf
footprint TI-DW20_N (SOIC, 20-Leads, Body 12.8x7.5mm, Pitch 1.27mm, IPC Medium Density)
footprint TI-DW20_L (SOIC, 20-Leads, Body 12.8x7.5mm, Pitch 1.27mm, IPC High Density)
footprint TI-DW20_M (SOIC, 20-Leads, Body 12.8x7.5mm, Pitch 1.27mm, IPC Low Density)
pins: 1 DGTL GND (power), 2 DGTL VDD (power), 3 COMP, 4 REF (in), 5 ANLG VDD1 (power), 6 A OUT (out), 7 NC, 8 ANLG VDD2 (power), 9 DGTL VDD (power), 10 ANLG GND (power), 11 CLK (in), 12 D7 (MSB) (in), 13 D6 (in), 14 D5 (in), 15 D4 (in), 16 D3 (in), 17 D2 (in), 18 D1 (in), 19 D0 (LSB) (in), 20 NC

## TLC5602CDWRG4
designator U?
8-Bit, 30 MSPS Single DAC, 0 to 70 degC, 20-pin SOIC (DW20), Green (RoHS & no Sb/Br); Manufacturer: Texas Instruments; PartNumber: TLC5602CDWRG4; DAC Channels: 1; Interface: Parallel CMOS; Power Consumption(Typ)(mW): 80; Resolution(Bits): 8; Settling Time(us): 0.03; SubFamily: High Speed DAC (>10MSPS); DatasheetVersion: SLAS023D; PackageVersion: 4040000-4/G, 01/2011; PackageReference: DW20; PackageDescription: 20-Pin Plastic Small Outline, Body 12.8 x 7.5 mm, Pitch 1.27 mm; Supplier 1: Digi-Key; Supplier Part Number 1: TLC5602CDWRG4-ND; Supplier 2: Newark; Supplier Part Number 2: 33K7154; Supplier 3: Mouser; Supplier Part Number 3: 595-TLC5602CDWRG4; Eco-Plan: Green (RoHS & no Sb/Br); Mounting Technology: Surface Mount; Code_JEDEC: MO-013; ComponentLink1Description: Manufacturer URL; ComponentLink1URL: http://www.ti.com/; ComponentLink2Description: Datasheet; ComponentLink2URL: http://www.ti.com/general/docs/lit/getliterature.tsp?genericPartNumber=TLC5602&fileType=pdf; ComponentLink3Description: Package Specification; ComponentLink3URL: http://www.ti.com/lit/ml/mpds173a/mpds173a.pdf
footprint TI-DW20_N (SOIC, 20-Leads, Body 12.8x7.5mm, Pitch 1.27mm, IPC Medium Density)
footprint TI-DW20_L (SOIC, 20-Leads, Body 12.8x7.5mm, Pitch 1.27mm, IPC High Density)
footprint TI-DW20_M (SOIC, 20-Leads, Body 12.8x7.5mm, Pitch 1.27mm, IPC Low Density)
pins: 1 DGTL GND (power), 2 DGTL VDD (power), 3 COMP, 4 REF (in), 5 ANLG VDD1 (power), 6 A OUT (out), 7 NC, 8 ANLG VDD2 (power), 9 DGTL VDD (power), 10 ANLG GND (power), 11 CLK (in), 12 D7 (MSB) (in), 13 D6 (in), 14 D5 (in), 15 D4 (in), 16 D3 (in), 17 D2 (in), 18 D1 (in), 19 D0 (LSB) (in), 20 NC

## TLC5615CD
designator U?
10-Bit, 12.5 us DAC, Serial Input, Low Power, 0 to 70 degC, 8-pin SOIC (D8), Green (RoHS & no Sb/Br); Manufacturer: Texas Instruments; PartNumber: TLC5615CD; DAC Channels: 1; DNL(Max)(+/-LSB): 0.5; Interface: Serial SPI; Power Consumption(Typ)(mW): 0.75; Resolution(Bits): 10; Settling Time(us): 12.5; SubFamily: Precision DAC (=<10MSPS); DatasheetVersion: SLAS142E; PackageVersion: 4040047-3/M, 06/2011; PackageReference: D8; PackageDescription: 8-Pin Plastic Small Outline, Body 4.9 x 3.9 mm, Pitch 1.27 mm; Supplier 1: Digi-Key; Supplier Part Number 1: 296-3004-5-ND; Supplier 2: Newark; Supplier Part Number 2: 83F9158; Supplier 3: Mouser; Supplier Part Number 3: 595-TLC5615CD; Eco-Plan: Green (RoHS & no Sb/Br); INL(Max)(+/-LSB): 1; Mounting Technology: Surface Mount; Code_JEDEC: MS-012; ComponentLink1Description: Manufacturer URL; ComponentLink1URL: http://www.ti.com/; ComponentLink2Description: Datasheet; ComponentLink2URL: http://www.ti.com/general/docs/lit/getliterature.tsp?genericPartNumber=TLC5615&fileType=pdf; ComponentLink3Description: Package Specification; ComponentLink3URL: http://www.ti.com/litv/pdf/msoi002j
footprint TI-D8_N (SOIC, 8-Leads, Body 4.9x3.9mm, Pitch 1.27mm, IPC Medium Density)
footprint TI-D8_L (SOIC, 8-Leads, Body 4.9x3.9mm, Pitch 1.27mm, IPC High Density)
footprint TI-D8_M (SOIC, 8-Leads, Body 4.9x3.9mm, Pitch 1.27mm, IPC Low Density)
pins: 1 DIN (in) "Serial data input", 2 SCLK (in) "Serial clock input", 3 ~{CS} (in) "Chip select, active low", 4 DOUT (out) "Serial data output for daisy chaining", 5 AGND (power) "Analog ground", 6 REFIN (in) "Reference input", 7 OUT (out) "DAC analog voltage output", 8 VDD (power) "Positive power supply"

## TLC5615CDG4
designator U?
10-Bit, 12.5 us DAC, Serial Input, Low Power, 0 to 70 degC, 8-pin SOIC (D8), Green (RoHS & no Sb/Br); Manufacturer: Texas Instruments; PartNumber: TLC5615CDG4; DAC Channels: 1; DNL(Max)(+/-LSB): 0.5; Interface: Serial SPI; Power Consumption(Typ)(mW): 0.75; Resolution(Bits): 10; Settling Time(us): 12.5; SubFamily: Precision DAC (=<10MSPS); DatasheetVersion: SLAS142E; PackageVersion: 4040047-3/M, 06/2011; PackageReference: D8; PackageDescription: 8-Pin Plastic Small Outline, Body 4.9 x 3.9 mm, Pitch 1.27 mm; Supplier 1: Digi-Key; Supplier Part Number 1: TLC5615CDG4-ND; Supplier 2: Farnell; Supplier Part Number 2: 1234666; Supplier 3: Newark; Supplier Part Number 3: 13M3148; Supplier 4: Mouser; Supplier Part Number 4: 595-TLC5615CDG4; Eco-Plan: Green (RoHS & no Sb/Br); INL(Max)(+/-LSB): 1; Mounting Technology: Surface Mount; Code_JEDEC: MS-012; ComponentLink1Description: Manufacturer URL; ComponentLink1URL: http://www.ti.com/; ComponentLink2Description: Datasheet; ComponentLink2URL: http://www.ti.com/general/docs/lit/getliterature.tsp?genericPartNumber=TLC5615&fileType=pdf; ComponentLink3Description: Package Specification; ComponentLink3URL: http://www.ti.com/litv/pdf/msoi002j
footprint TI-D8_N (SOIC, 8-Leads, Body 4.9x3.9mm, Pitch 1.27mm, IPC Medium Density)
footprint TI-D8_L (SOIC, 8-Leads, Body 4.9x3.9mm, Pitch 1.27mm, IPC High Density)
footprint TI-D8_M (SOIC, 8-Leads, Body 4.9x3.9mm, Pitch 1.27mm, IPC Low Density)
pins: 1 DIN (in) "Serial data input", 2 SCLK (in) "Serial clock input", 3 ~{CS} (in) "Chip select, active low", 4 DOUT (out) "Serial data output for daisy chaining", 5 AGND (power) "Analog ground", 6 REFIN (in) "Reference input", 7 OUT (out) "DAC analog voltage output", 8 VDD (power) "Positive power supply"

## TLC5615CDGK
designator U?
10-Bit, 12.5 us DAC, Serial Input, Low Power, 0 to 70 degC, 8-pin SOP (DGK8), Green (RoHS & no Sb/Br); Manufacturer: Texas Instruments; PartNumber: TLC5615CDGK; DAC Channels: 1; DNL(Max)(+/-LSB): 0.5; Interface: Serial SPI; Power Consumption(Typ)(mW): 0.75; Resolution(Bits): 10; Settling Time(us): 12.5; SubFamily: Precision DAC (=<10MSPS); DatasheetVersion: SLAS142E; PackageVersion: 4073329/E, 05/2006; PackageReference: DGK8; PackageDescription: 8-Pin Thin Small Outline, Body 3 x 3 mm, Pitch 0.65 mm; Supplier 1: Digi-Key; Supplier Part Number 1: 296-3005-5-ND; Supplier 2: Newark; Supplier Part Number 2: 76C7462; Supplier 3: Mouser; Supplier Part Number 3: 595-TLC5615CDGK; Eco-Plan: Green (RoHS & no Sb/Br); INL(Max)(+/-LSB): 1; Mounting Technology: Surface Mount; Code_JEDEC: MO-187; ComponentLink1Description: Manufacturer URL; ComponentLink1URL: http://www.ti.com/; ComponentLink2Description: Datasheet; ComponentLink2URL: http://www.ti.com/general/docs/lit/getliterature.tsp?genericPartNumber=TLC5615&fileType=pdf; ComponentLink3Description: Package Specification; ComponentLink3URL: http://www.ti.com/litv/pdf/mpds028d
footprint TI-DGK8_N (SOP, 8-Leads, Body 3x3mm, Pitch 0.65mm, IPC Medium Density)
footprint TI-DGK8_L (SOP, 8-Leads, Body 3x3mm, Pitch 0.65mm, IPC High Density)
footprint TI-DGK8_M (SOP, 8-Leads, Body 3x3mm, Pitch 0.65mm, IPC Low Density)
pins: 1 DIN (in) "Serial data input", 2 SCLK (in) "Serial clock input", 3 ~{CS} (in) "Chip select, active low", 4 DOUT (out) "Serial data output for daisy chaining", 5 AGND (power) "Analog ground", 6 REFIN (in) "Reference input", 7 OUT (out) "DAC analog voltage output", 8 VDD (power) "Positive power supply"

## TLC5615CDGKG4
designator U?
10-Bit, 12.5 us DAC, Serial Input, Low Power, 0 to 70 degC, 8-pin SOP (DGK8), Green (RoHS & no Sb/Br); Manufacturer: Texas Instruments; PartNumber: TLC5615CDGKG4; DAC Channels: 1; DNL(Max)(+/-LSB): 0.5; Interface: Serial SPI; Power Consumption(Typ)(mW): 0.75; Resolution(Bits): 10; Settling Time(us): 12.5; SubFamily: Precision DAC (=<10MSPS); DatasheetVersion: SLAS142E; PackageVersion: 4073329/E, 05/2006; PackageReference: DGK8; PackageDescription: 8-Pin Thin Small Outline, Body 3 x 3 mm, Pitch 0.65 mm; Supplier 1: Digi-Key; Supplier Part Number 1: TLC5615CDGKG4-ND; Supplier 2: Newark; Supplier Part Number 2: 10M0580; Supplier 3: Mouser; Supplier Part Number 3: 595-TLC5615CDGKG4; Eco-Plan: Green (RoHS & no Sb/Br); INL(Max)(+/-LSB): 1; Mounting Technology: Surface Mount; Code_JEDEC: MO-187; ComponentLink1Description: Manufacturer URL; ComponentLink1URL: http://www.ti.com/; ComponentLink2Description: Datasheet; ComponentLink2URL: http://www.ti.com/general/docs/lit/getliterature.tsp?genericPartNumber=TLC5615&fileType=pdf; ComponentLink3Description: Package Specification; ComponentLink3URL: http://www.ti.com/litv/pdf/mpds028d
footprint TI-DGK8_N (SOP, 8-Leads, Body 3x3mm, Pitch 0.65mm, IPC Medium Density)
footprint TI-DGK8_L (SOP, 8-Leads, Body 3x3mm, Pitch 0.65mm, IPC High Density)
footprint TI-DGK8_M (SOP, 8-Leads, Body 3x3mm, Pitch 0.65mm, IPC Low Density)
pins: 1 DIN (in) "Serial data input", 2 SCLK (in) "Serial clock input", 3 ~{CS} (in) "Chip select, active low", 4 DOUT (out) "Serial data output for daisy chaining", 5 AGND (power) "Analog ground", 6 REFIN (in) "Reference input", 7 OUT (out) "DAC analog voltage output", 8 VDD (power) "Positive power supply"

## TLC5615CDGKR
designator U?
10-Bit, 12.5 us DAC, Serial Input, Low Power, 0 to 70 degC, 8-pin SOP (DGK8), Green (RoHS & no Sb/Br); Manufacturer: Texas Instruments; PartNumber: TLC5615CDGKR; DAC Channels: 1; DNL(Max)(+/-LSB): 0.5; Interface: Serial SPI; Power Consumption(Typ)(mW): 0.75; Resolution(Bits): 10; Settling Time(us): 12.5; SubFamily: Precision DAC (=<10MSPS); DatasheetVersion: SLAS142E; PackageVersion: 4073329/E, 05/2006; PackageReference: DGK8; PackageDescription: 8-Pin Thin Small Outline, Body 3 x 3 mm, Pitch 0.65 mm; Supplier 1: Digi-Key; Supplier Part Number 1: TLC5615CDGKR-ND; Supplier 2: Mouser; Supplier Part Number 2: 595-TLC5615CDGKR; Eco-Plan: Green (RoHS & no Sb/Br); INL(Max)(+/-LSB): 1; Mounting Technology: Surface Mount; Code_JEDEC: MO-187; ComponentLink1Description: Manufacturer URL; ComponentLink1URL: http://www.ti.com/; ComponentLink2Description: Datasheet; ComponentLink2URL: http://www.ti.com/general/docs/lit/getliterature.tsp?genericPartNumber=TLC5615&fileType=pdf; ComponentLink3Description: Package Specification; ComponentLink3URL: http://www.ti.com/litv/pdf/mpds028d
footprint TI-DGK8_N (SOP, 8-Leads, Body 3x3mm, Pitch 0.65mm, IPC Medium Density)
footprint TI-DGK8_L (SOP, 8-Leads, Body 3x3mm, Pitch 0.65mm, IPC High Density)
footprint TI-DGK8_M (SOP, 8-Leads, Body 3x3mm, Pitch 0.65mm, IPC Low Density)
pins: 1 DIN (in) "Serial data input", 2 SCLK (in) "Serial clock input", 3 ~{CS} (in) "Chip select, active low", 4 DOUT (out) "Serial data output for daisy chaining", 5 AGND (power) "Analog ground", 6 REFIN (in) "Reference input", 7 OUT (out) "DAC analog voltage output", 8 VDD (power) "Positive power supply"

## TLC5615CDGKRG4
designator U?
10-Bit, 12.5 us DAC, Serial Input, Low Power, 0 to 70 degC, 8-pin SOP (DGK8), Green (RoHS & no Sb/Br); Manufacturer: Texas Instruments; PartNumber: TLC5615CDGKRG4; DAC Channels: 1; DNL(Max)(+/-LSB): 0.5; Interface: Serial SPI; Power Consumption(Typ)(mW): 0.75; Resolution(Bits): 10; Settling Time(us): 12.5; SubFamily: Precision DAC (=<10MSPS); DatasheetVersion: SLAS142E; PackageVersion: 4073329/E, 05/2006; PackageReference: DGK8; PackageDescription: 8-Pin Thin Small Outline, Body 3 x 3 mm, Pitch 0.65 mm; Supplier 1: Digi-Key; Supplier Part Number 1: TLC5615CDGKRG4-ND; Supplier 2: Mouser; Supplier Part Number 2: 595-TLC5615CDGKRG4; Eco-Plan: Green (RoHS & no Sb/Br); INL(Max)(+/-LSB): 1; Mounting Technology: Surface Mount; Code_JEDEC: MO-187; ComponentLink1Description: Manufacturer URL; ComponentLink1URL: http://www.ti.com/; ComponentLink2Description: Datasheet; ComponentLink2URL: http://www.ti.com/general/docs/lit/getliterature.tsp?genericPartNumber=TLC5615&fileType=pdf; ComponentLink3Description: Package Specification; ComponentLink3URL: http://www.ti.com/litv/pdf/mpds028d
footprint TI-DGK8_N (SOP, 8-Leads, Body 3x3mm, Pitch 0.65mm, IPC Medium Density)
footprint TI-DGK8_L (SOP, 8-Leads, Body 3x3mm, Pitch 0.65mm, IPC High Density)
footprint TI-DGK8_M (SOP, 8-Leads, Body 3x3mm, Pitch 0.65mm, IPC Low Density)
pins: 1 DIN (in) "Serial data input", 2 SCLK (in) "Serial clock input", 3 ~{CS} (in) "Chip select, active low", 4 DOUT (out) "Serial data output for daisy chaining", 5 AGND (power) "Analog ground", 6 REFIN (in) "Reference input", 7 OUT (out) "DAC analog voltage output", 8 VDD (power) "Positive power supply"